# EAGLE library part MXL1001(MAXIM_PRECISION_OPAMP) (library QuantumOptics)
MXL1001 precision opamp, Maxim, 15uVmax 2nAmax, 6-36V.
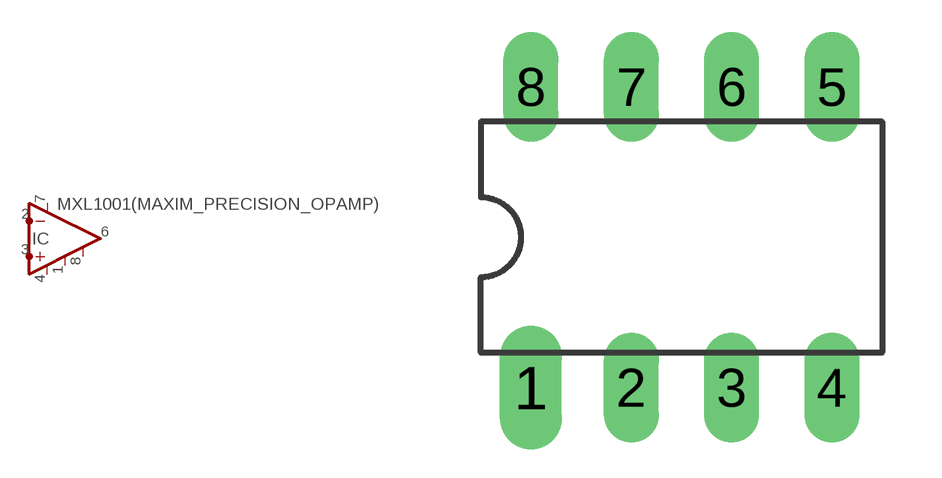
[diagram p37: symbol with the pads of DIL08; footprint DIL08]

Designator prefix IC

## MXL1001(MAXIM_PRECISION_OPAMP)CN8  [DIL08]
1  TRIM1  pas
2  -IN  in
3  +IN  in
4  V-  in
6  OUT  out
7  V+  in
8  TRIM2  pas

## MXL1001(MAXIM_PRECISION_OPAMP)ACN8  [DIL08]
Pads as for DIL08

## Footprint DIL08 (pad centres in mm)
Dual In Line Package
drill 0.889 pad 1.575 long: 1 -3.81,-3.81
drill 0.889 long: 2 -1.27,-3.81; 3 1.27,-3.81; 4 3.81,-3.81; 5 3.81,3.81; 6 1.27,3.81; 7 -1.27,3.81; 8 -3.81,3.81